# Altium footprint library Button.PcbLib: 2 footprints
Each footprint in its own frame and in the unit in brackets; x right, y up, seen from the top. Pads: shape width x height; smd on the part's side, far side on the other; paste and mask are expansions set on the pad; w line width, h text height; cw(c..) or ccw(c..) is an arc to the next point about the centre after c.
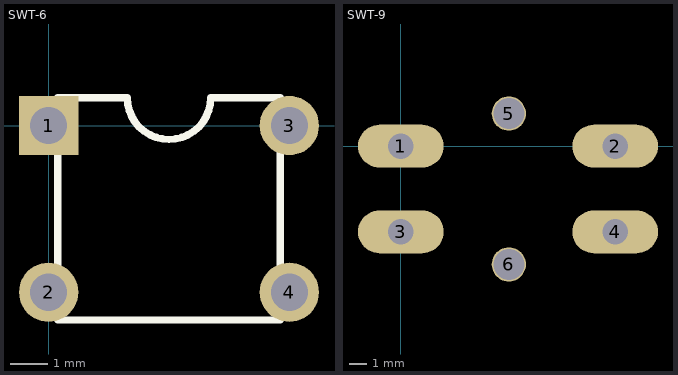
[diagram p0: the footprints below, top view; thin cyan lines are the x and y axes]

## SWT-6 [mm]
height 15
pads (4):
  rect 1.6x1.6 hole 1: 1(0,0)
  round 1.6 hole 1: 2(0,-4.5) 3(6.5,0) 4(6.5,-4.5)
Top Overlay:
  lines w0.2: 0.25,0.7 0.25,-5.25 6.25,-5.25 6.25,0.75 4.375,0.75 cw(c3.25,0.75) 2.125,0.75 0.25,0.75
3D body: height 12.3, standoff -0.7, extent -0.856,-5.25 7.356,0.75

## SWT-9 [mm]
pads (6):
  oval 5x2.5 hole 1.5: 1(0,0) 2(12.5,0) 3(0,-5) 4(12.5,-5)
  round 2 hole 1.8: 5(6.3,1.9) 6(6.3,-6.9)
Bottom Overlay:
  lines w0.254: 0,-8.5 12.5,-8.5 12.5,-7 11.5,-7 cw(c11.5,-5) 11.5,-3 12.5,-3 12.5,-2 11.5,-2 cw(c11.5,0) 11.5,2 12.5,2 12.5,3.5 0,3.5 0,2 1,2 cw(c1,0) 1,-2 0,-2 0,-3 1,-3 cw(c1,-5) 1,-7 0,-7 0,-8.5
3D body: height 9.5, standoff -3.5, extent -0.637,-8.5 13.236,3.5